# EAGLE library part 20021321-00008 (library esbd-connectors)
20021321-00008 Amphenol FCI Minitek127® Board to Board connectors, PCB mounted Receptacle, Vertical, Surface Mount, Double Row, 8 Positions, 1.27mm (0.05inch) pitch
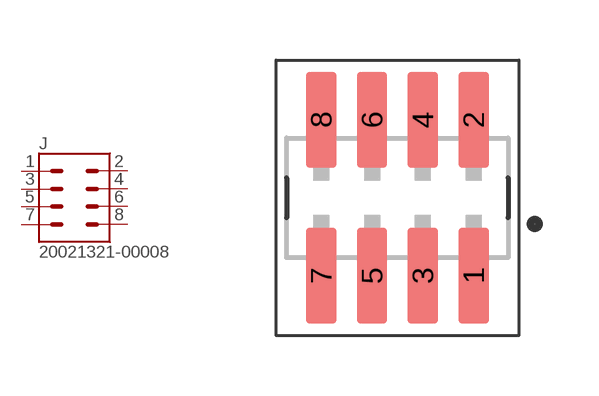
[diagram p15: symbol with the pads of FE04-2_SMD_1.27MM; footprint FE04-2_SMD_1.27MM]

Designator prefix J

## 20021321-00008  [FE04-2_SMD_1.27MM]
1  1  pas
2  2  pas
3  3  pas
4  4  pas
5  5  pas
6  6  pas
7  7  pas
8  8  pas

## Footprint FE04-2_SMD_1.27MM (pad centres in mm)
smd 0.76 x 2.4: 1 1.905,-1.95; 2 1.905,1.95; 3 0.635,-1.95; 4 0.635,1.95; 5 -0.635,-1.95; 6 -0.635,1.95; 7 -1.905,-1.95; 8 -1.905,1.95